# Altium integrated library Actel Fusion FPGA.IntLib: 438 symbols (part 2 of 3)
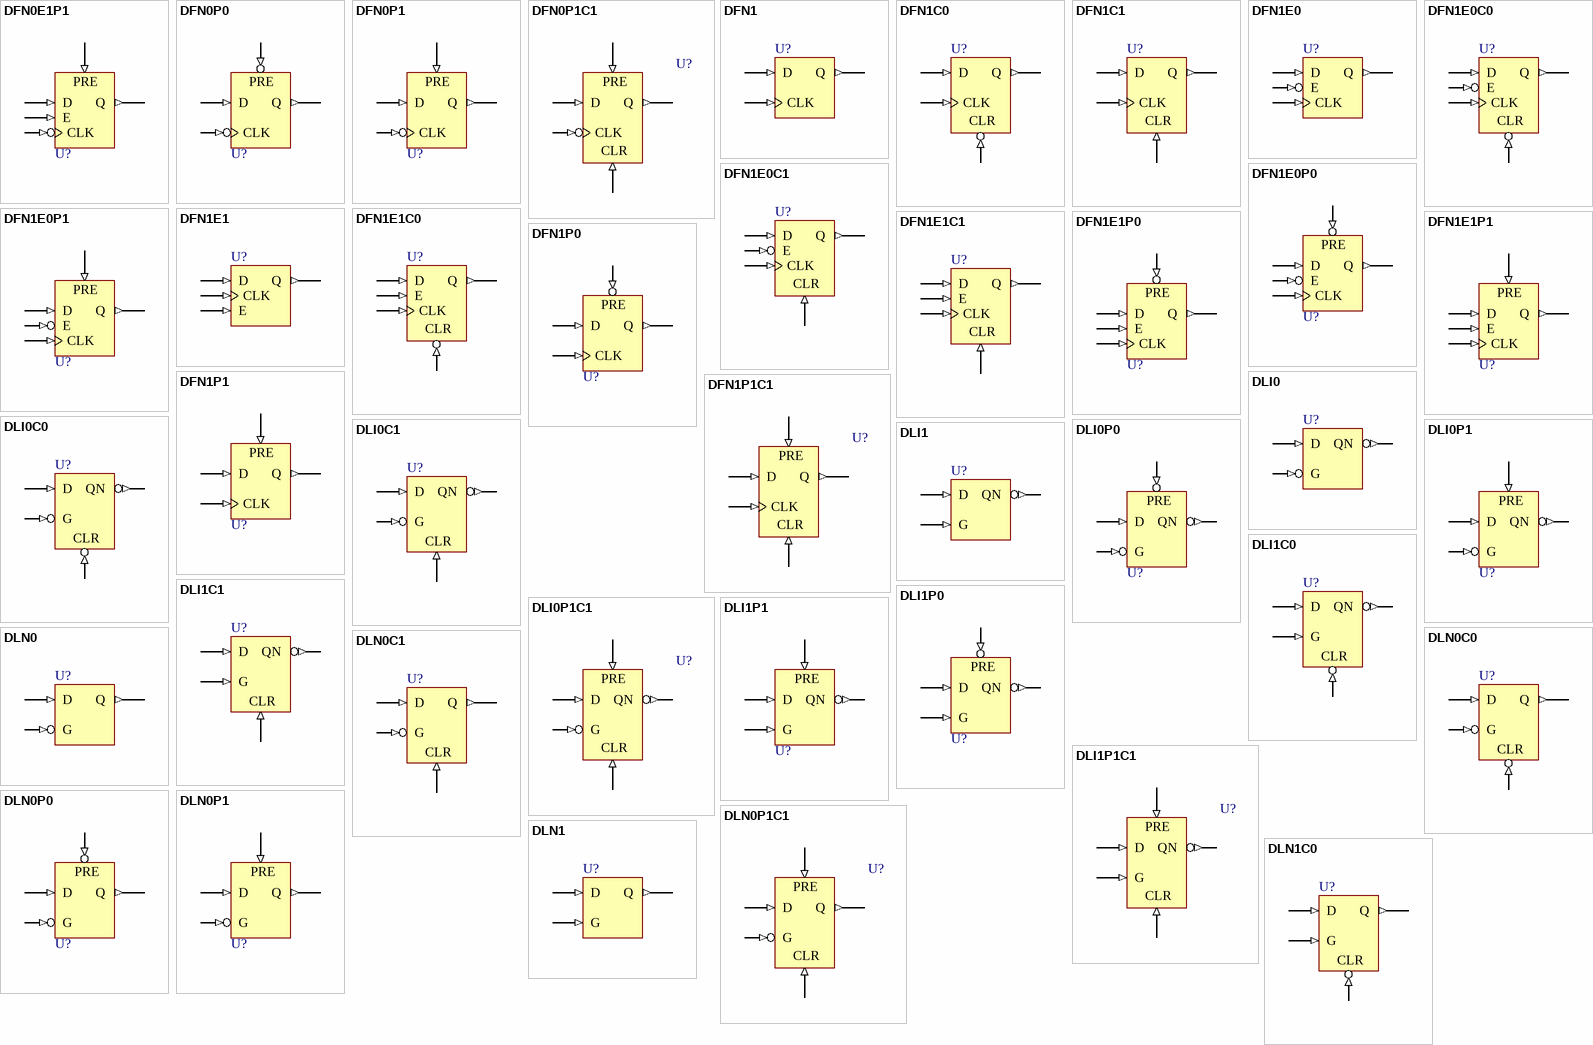
[diagram p12: symbols DFN0E1P1 to DLN1C0]

## DFN0P1
designator U?
D-Type Flip-Flop with active high Preset, and active low Clock; FPGAVendor: Actel; Published: 25-Oct-2005; Publisher: Altium Limited; HelpURL: http://www.actel.com/documents/pa3_libguide_ug.pdf
pins: CLK (in), D (in), PRE (in), Q (out)

## DFN0P1C1
designator U?
Falling Edge Triggered D-Type Flip-Flop with Active High Preset and Clear; FPGAVendor: Actel; Published: 25-Oct-2005; Publisher: Altium Limited; HelpURL: http://www.actel.com/documents/pa3_libguide_ug.pdf
pins: CLK (in), CLR (in), D (in), PRE (in), Q (out)

## DFN1
designator U?
D-Type Flip-Flop; FPGAVendor: Actel; Published: 25-Oct-2005; Publisher: Altium Limited; HelpURL: http://www.actel.com/documents/pa3_libguide_ug.pdf
pins: CLK (in), D (in), Q (out)

## DFN1C0
designator U?
D-Type Flip-Flop with active low Clear; FPGAVendor: Actel; Published: 25-Oct-2005; Publisher: Altium Limited; HelpURL: http://www.actel.com/documents/pa3_libguide_ug.pdf
pins: CLK (in), CLR (in), D (in), Q (out)

## DFN1C1
designator U?
D-Type Flip-Flop with active high Clear; FPGAVendor: Actel; Published: 25-Oct-2005; Publisher: Altium Limited; HelpURL: http://www.actel.com/documents/pa3_libguide_ug.pdf
pins: CLK (in), CLR (in), D (in), Q (out)

## DFN1E0
designator U?
D-Type Flip-Flop with active low Enable; FPGAVendor: Actel; Published: 25-Oct-2005; Publisher: Altium Limited; HelpURL: http://www.actel.com/documents/pa3_libguide_ug.pdf
pins: CLK (in), D (in), E (in), Q (out)

## DFN1E0C0
designator U?
D-Type Flip-Flop with Active Low Enable and Clear; FPGAVendor: Actel; Published: 25-Oct-2005; Publisher: Altium Limited; HelpURL: http://www.actel.com/documents/pa3_libguide_ug.pdf
pins: CLK (in), CLR (in), D (in), E (in), Q (out)

## DFN1E0C1
designator U?
D-Type Flip-Flop with Active Low Enable and active high Clear; FPGAVendor: Actel; Published: 25-Oct-2005; Publisher: Altium Limited; HelpURL: http://www.actel.com/documents/pa3_libguide_ug.pdf
pins: CLK (in), CLR (in), D (in), E (in), Q (out)

## DFN1E0P0
designator U?
D-Type Flip-Flop with active low Enable and Preset; FPGAVendor: Actel; Published: 25-Oct-2005; Publisher: Altium Limited; HelpURL: http://www.actel.com/documents/pa3_libguide_ug.pdf
pins: CLK (in), D (in), E (in), PRE (in), Q (out)

## DFN1E0P1
designator U?
D-Type Flip-Flop with active low Enable, and active high Preset; FPGAVendor: Actel; Published: 25-Oct-2005; Publisher: Altium Limited; HelpURL: http://www.actel.com/documents/pa3_libguide_ug.pdf
pins: CLK (in), D (in), E (in), PRE (in), Q (out)

## DFN1E1
designator U?
D-Type Flip-Flop with active high Enable; FPGAVendor: Actel; Published: 25-Oct-2005; Publisher: Altium Limited; HelpURL: http://www.actel.com/documents/pa3_libguide_ug.pdf
pins: CLK (in), D (in), E (in), Q (out)

## DFN1E1C0
designator U?
D-Type Flip-Flop, with Enable and active low Clear; FPGAVendor: Actel; Published: 25-Oct-2005; Publisher: Altium Limited; HelpURL: http://www.actel.com/documents/pa3_libguide_ug.pdf
pins: CLK (in), CLR (in), D (in), E (in), Q (out)

## DFN1E1C1
designator U?
D-Type Flip-Flop, with Enable and active high Clear; FPGAVendor: Actel; Published: 25-Oct-2005; Publisher: Altium Limited; HelpURL: http://www.actel.com/documents/pa3_libguide_ug.pdf
pins: CLK (in), CLR (in), D (in), E (in), Q (out)

## DFN1E1P0
designator U?
D-Type Flip-Flop with active high Enable and active low Preset; FPGAVendor: Actel; Published: 25-Oct-2005; Publisher: Altium Limited; HelpURL: http://www.actel.com/documents/pa3_libguide_ug.pdf
pins: CLK (in), D (in), E (in), PRE (in), Q (out)

## DFN1E1P1
designator U?
D-Type Flip-Flop with active high Enable and Preset; FPGAVendor: Actel; Published: 25-Oct-2005; Publisher: Altium Limited; HelpURL: http://www.actel.com/documents/pa3_libguide_ug.pdf
pins: CLK (in), D (in), E (in), PRE (in), Q (out)

## DFN1P0
designator U?
D-Type Flip-Flop with active low Preset; FPGAVendor: Actel; Published: 25-Oct-2005; Publisher: Altium Limited; HelpURL: http://www.actel.com/documents/pa3_libguide_ug.pdf
pins: CLK (in), D (in), PRE (in), Q (out)

## DFN1P1
designator U?
D-Type Flip-Flop with active high Preset; FPGAVendor: Actel; Published: 25-Oct-2005; Publisher: Altium Limited; HelpURL: http://www.actel.com/documents/pa3_libguide_ug.pdf
pins: CLK (in), D (in), PRE (in), Q (out)

## DFN1P1C1
designator U?
Rising Edge Triggered D-Type Flip-Flop with Active High Preset and Clear; FPGAVendor: Actel; Published: 25-Oct-2005; Publisher: Altium Limited; HelpURL: http://www.actel.com/documents/pa3_libguide_ug.pdf
pins: CLK (in), CLR (in), D (in), PRE (in), Q (out)

## DLI0
designator U?
Data Latch, with active low Clock and inverted Output; FPGAVendor: Actel; Published: 25-Oct-2005; Publisher: Altium Limited; HelpURL: http://www.actel.com/documents/pa3_libguide_ug.pdf
pins: D (in), G (in), QN (out)

## DLI0C0
designator U?
Data Latch with active low Clear, Clock, and inverted Output; FPGAVendor: Actel; Published: 25-Oct-2005; Publisher: Altium Limited; HelpURL: http://www.actel.com/documents/pa3_libguide_ug.pdf
pins: CLR (in), D (in), G (in), QN (out)

## DLI0C1
designator U?
Data Latch with active high Clear and active low Clock and inverted Output; FPGAVendor: Actel; Published: 25-Oct-2005; Publisher: Altium Limited; HelpURL: http://www.actel.com/documents/pa3_libguide_ug.pdf
pins: CLR (in), D (in), G (in), QN (out)

## DLI0P0
designator U?
Data Latch with active low Preset, Clock, and inverted Output; FPGAVendor: Actel; Published: 25-Oct-2005; Publisher: Altium Limited; HelpURL: http://www.actel.com/documents/pa3_libguide_ug.pdf
pins: D (in), G (in), PRE (in), QN (out)

## DLI0P1
designator U?
Active Low Latch with Active High Preset and inverted Output; FPGAVendor: Actel; Published: 25-Oct-2005; Publisher: Altium Limited; HelpURL: http://www.actel.com/documents/pa3_libguide_ug.pdf
pins: D (in), G (in), PRE (in), QN (out)

## DLI0P1C1
designator U?
Active Low Latch with Active High Preset and Clear and inverted Output; FPGAVendor: Actel; Published: 25-Oct-2005; Publisher: Altium Limited; HelpURL: http://www.actel.com/documents/pa3_libguide_ug.pdf
pins: CLR (in), D (in), G (in), PRE (in), QN (out)

## DLI1
designator U?
Data Latch with inverted Output; FPGAVendor: Actel; Published: 25-Oct-2005; Publisher: Altium Limited; HelpURL: http://www.actel.com/documents/pa3_libguide_ug.pdf
pins: D (in), G (in), QN (out)

## DLI1C0
designator U?
Data Latch with active low Clear and inverted output; FPGAVendor: Actel; Published: 25-Oct-2005; Publisher: Altium Limited; HelpURL: http://www.actel.com/documents/pa3_libguide_ug.pdf
pins: CLR (in), D (in), G (in), QN (out)

## DLI1C1
designator U?
Data Latch with active high Clear and inverted Output; FPGAVendor: Actel; Published: 25-Oct-2005; Publisher: Altium Limited; HelpURL: http://www.actel.com/documents/pa3_libguide_ug.pdf
pins: CLR (in), D (in), G (in), QN (out)

## DLI1P0
designator U?
Data Latch with active low Preset and Output, and active high Clock; FPGAVendor: Actel; Published: 25-Oct-2005; Publisher: Altium Limited; HelpURL: http://www.actel.com/documents/pa3_libguide_ug.pdf
pins: D (in), G (in), PRE (in), QN (out)

## DLI1P1
designator U?
Active High Latch with Active High Preset and inverted Output; FPGAVendor: Actel; Published: 25-Oct-2005; Publisher: Altium Limited; HelpURL: http://www.actel.com/documents/pa3_libguide_ug.pdf
pins: D (in), G (in), PRE (in), QN (out)

## DLI1P1C1
designator U?
Active High Latch with Active High Preset and Clear and inverted Output; FPGAVendor: Actel; Published: 25-Oct-2005; Publisher: Altium Limited; HelpURL: http://www.actel.com/documents/pa3_libguide_ug.pdf
pins: CLR (in), D (in), G (in), PRE (in), QN (out)

## DLN0
designator U?
Data Latch with active low Clock; FPGAVendor: Actel; Published: 25-Oct-2005; Publisher: Altium Limited; HelpURL: http://www.actel.com/documents/pa3_libguide_ug.pdf
pins: D (in), G (in), Q (out)

## DLN0C0
designator U?
Data Latch with active low Clear and Clock; FPGAVendor: Actel; Published: 25-Oct-2005; Publisher: Altium Limited; HelpURL: http://www.actel.com/documents/pa3_libguide_ug.pdf
pins: CLR (in), D (in), G (in), Q (out)

## DLN0C1
designator U?
Data Latch with active high Clear and active low Clock; FPGAVendor: Actel; Published: 25-Oct-2005; Publisher: Altium Limited; HelpURL: http://www.actel.com/documents/pa3_libguide_ug.pdf
pins: CLR (in), D (in), G (in), Q (out)

## DLN0P0
designator U?
Data Latch with active low Preset and Clock; FPGAVendor: Actel; Published: 25-Oct-2005; Publisher: Altium Limited; HelpURL: http://www.actel.com/documents/pa3_libguide_ug.pdf
pins: D (in), G (in), PRE (in), Q (out)

## DLN0P1
designator U?
Data Latch with active high Preset and active low Clock; FPGAVendor: Actel; Published: 25-Oct-2005; Publisher: Altium Limited; HelpURL: http://www.actel.com/documents/pa3_libguide_ug.pdf
pins: D (in), G (in), PRE (in), Q (out)

## DLN0P1C1
designator U?
Active Low Latch with Active High Preset and Clear; FPGAVendor: Actel; Published: 25-Oct-2005; Publisher: Altium Limited; HelpURL: http://www.actel.com/documents/pa3_libguide_ug.pdf
pins: CLR (in), D (in), G (in), PRE (in), Q (out)

## DLN1
designator U?
Data Latch; FPGAVendor: Actel; Published: 25-Oct-2005; Publisher: Altium Limited; HelpURL: http://www.actel.com/documents/pa3_libguide_ug.pdf
pins: D (in), G (in), Q (out)

## DLN1C0
designator U?
Data Latch with active low Clear; FPGAVendor: Actel; Published: 25-Oct-2005; Publisher: Altium Limited; HelpURL: http://www.actel.com/documents/pa3_libguide_ug.pdf
pins: CLR (in), D (in), G (in), Q (out)

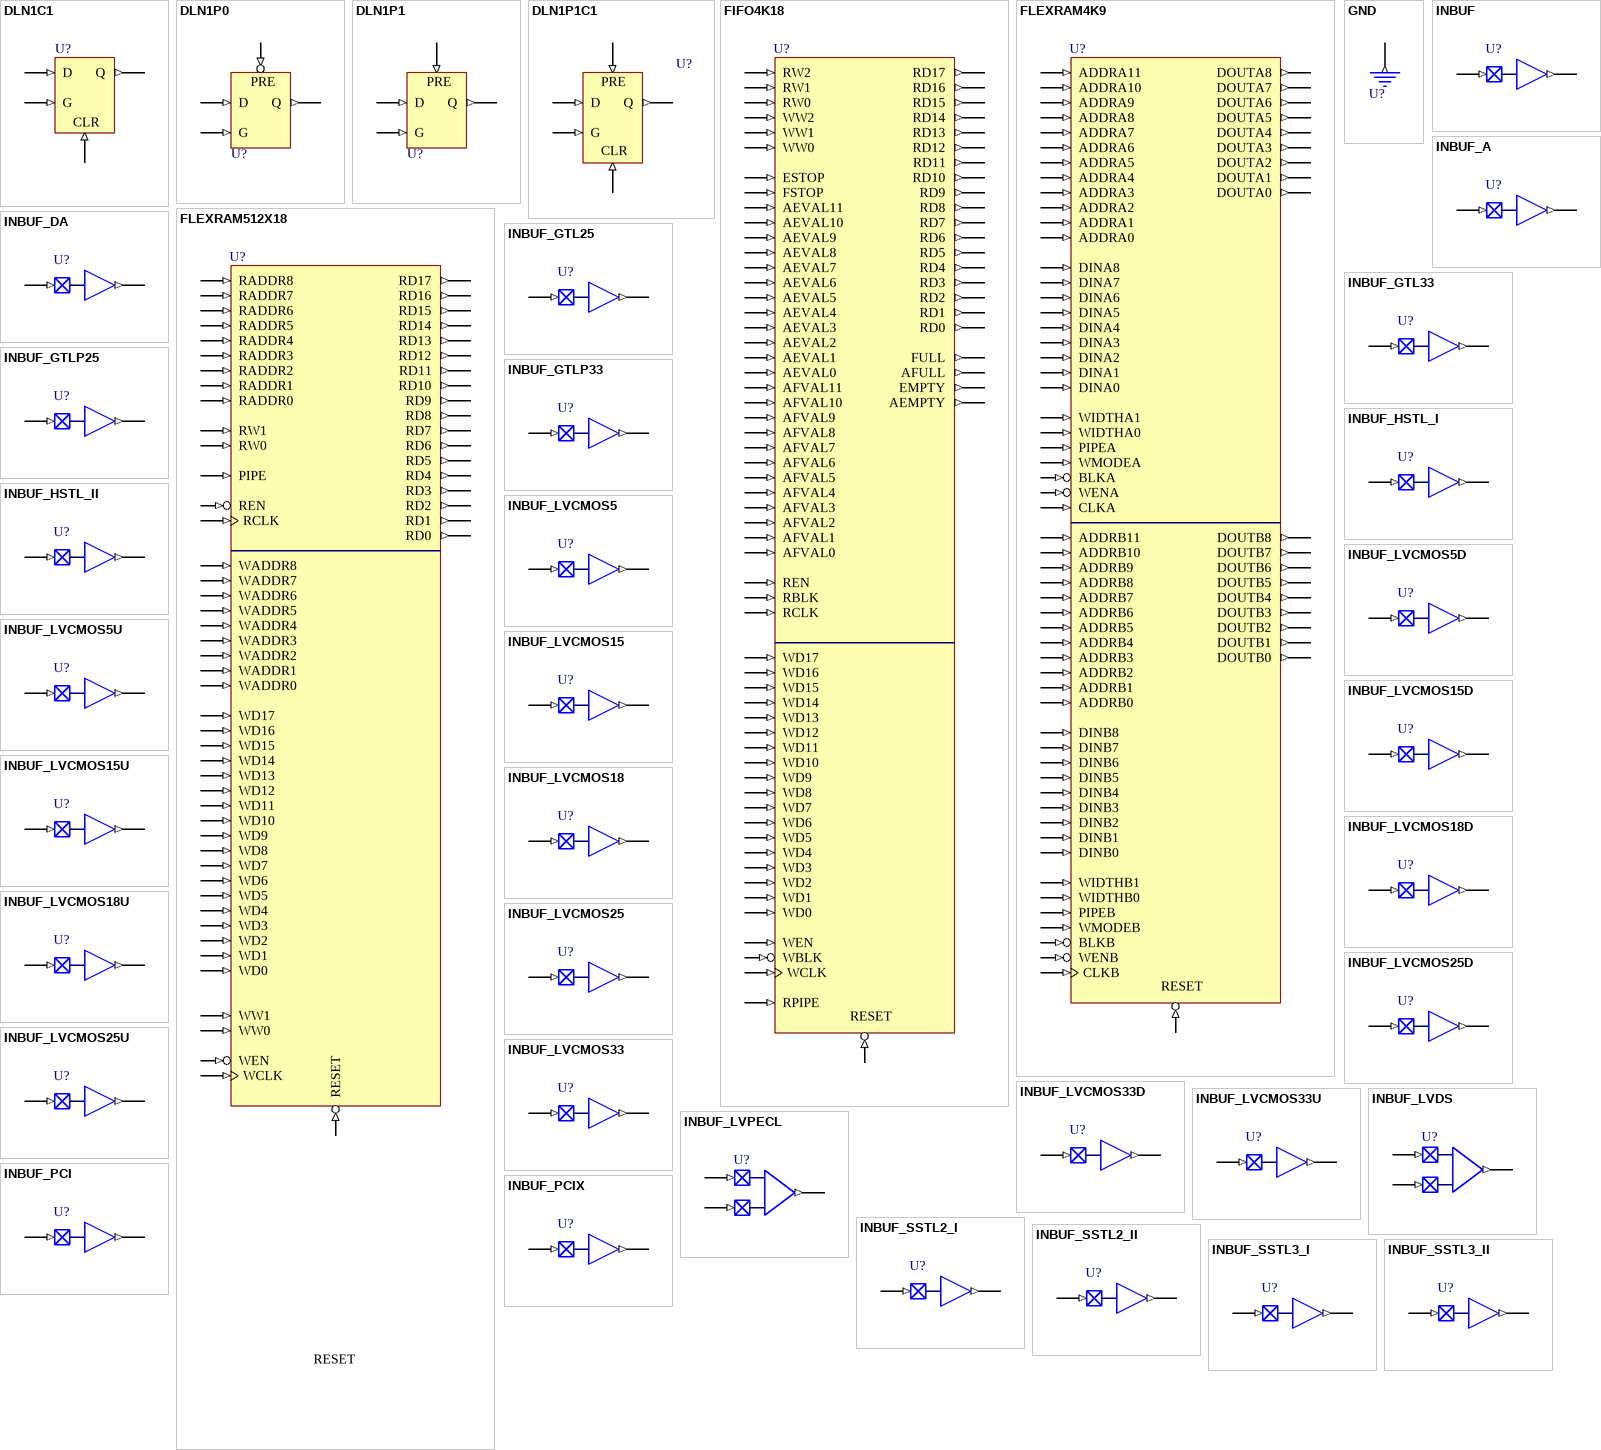
[diagram p6: symbols DLN1C1 to INBUF_SSTL3_II]

## DLN1C1
designator U?
Data Latch with active high Clear; FPGAVendor: Actel; Published: 25-Oct-2005; Publisher: Altium Limited; HelpURL: http://www.actel.com/documents/pa3_libguide_ug.pdf
pins: CLR (in), D (in), G (in), Q (out)

## DLN1P0
designator U?
Data Latch with active low Preset and active high Clock; FPGAVendor: Actel; Published: 25-Oct-2005; Publisher: Altium Limited; HelpURL: http://www.actel.com/documents/pa3_libguide_ug.pdf
pins: D (in), G (in), PRE (in), Q (out)

## DLN1P1
designator U?
Data Latch with active high Preset and Clock; FPGAVendor: Actel; Published: 25-Oct-2005; Publisher: Altium Limited; HelpURL: http://www.actel.com/documents/pa3_libguide_ug.pdf
pins: D (in), G (in), PRE (in), Q (out)

## DLN1P1C1
designator U?
Active High Latch with Active High Preset and Clear; FPGAVendor: Actel; Published: 25-Oct-2005; Publisher: Altium Limited; HelpURL: http://www.actel.com/documents/pa3_libguide_ug.pdf
pins: CLR (in), D (in), G (in), PRE (in), Q (out)

## FIFO4K18
designator U?
FIFO4K18 is fully synchronous and has its own built-in controller,capable of variable aspect ratios; FPGAVendor: Actel; Published: 25-Oct-2005; Publisher: Altium Limited; HelpURL: http://www.actel.com/documents/pa3_libguide_ug.pdf
pins: AEMPTY (out), AEVAL0 (in), AEVAL1 (in), AEVAL2 (in), AEVAL3 (in), AEVAL4 (in), AEVAL5 (in), AEVAL6 (in), AEVAL7 (in), AEVAL8 (in), AEVAL9 (in), AEVAL10 (in), AEVAL11 (in), AFULL (out), AFVAL0 (in), AFVAL1 (in), AFVAL2 (in), AFVAL3 (in), AFVAL4 (in), AFVAL5 (in), AFVAL6 (in), AFVAL7 (in), AFVAL8 (in), AFVAL9 (in), AFVAL10 (in), AFVAL11 (in), EMPTY (out), ESTOP (in), FSTOP (in), FULL (out), RBLK (in), RCLK (in), RD0 (out), RD1 (out), RD2 (out), RD3 (out), RD4 (out), RD5 (out), RD6 (out), RD7 (out), RD8 (out), RD9 (out), RD10 (out), RD11 (out), RD12 (out), RD13 (out), RD14 (out), RD15 (out), RD16 (out), RD17 (out), REN (in), RESET (in), RPIPE (in), RW0 (in), RW1 (in), RW2 (in), WBLK (in), WCLK (in), WD0 (in), WD1 (in), WD2 (in), WD3 (in), WD4 (in), WD5 (in), WD6 (in), WD7 (in), WD8 (in), WD9 (in), WD10 (in), WD11 (in), WD12 (in), WD13 (in), WD14 (in), WD15 (in), WD16 (in), WD17 (in), WEN (in), WW0 (in), WW1 (in), WW2 (in)

## FLEXRAM4K9
designator U?
FLEXRAM4K9 is a fully synchronous, true dual-port RAM with an optional pipeline stage; FPGAVendor: Actel; Published: 7-Sep-2006; Publisher: Altium Limited; HelpURL: http://www.actel.com/documents/pa3_libguide_ug.pdf
pins: ADDRA0 (in), ADDRA1 (in), ADDRA2 (in), ADDRA3 (in), ADDRA4 (in), ADDRA5 (in), ADDRA6 (in), ADDRA7 (in), ADDRA8 (in), ADDRA9 (in), ADDRA10 (in), ADDRA11 (in), ADDRB0 (in), ADDRB1 (in), ADDRB2 (in), ADDRB3 (in), ADDRB4 (in), ADDRB5 (in), ADDRB6 (in), ADDRB7 (in), ADDRB8 (in), ADDRB9 (in), ADDRB10 (in), ADDRB11 (in), BLKA (in), BLKB (in), CLKA (in), CLKB (in), DINA0 (in), DINA1 (in), DINA2 (in), DINA3 (in), DINA4 (in), DINA5 (in), DINA6 (in), DINA7 (in), DINA8 (in), DINB0 (in), DINB1 (in), DINB2 (in), DINB3 (in), DINB4 (in), DINB5 (in), DINB6 (in), DINB7 (in), DINB8 (in), DOUTA0 (out), DOUTA1 (out), DOUTA2 (out), DOUTA3 (out), DOUTA4 (out), DOUTA5 (out), DOUTA6 (out), DOUTA7 (out), DOUTA8 (out), DOUTB0 (out), DOUTB1 (out), DOUTB2 (out), DOUTB3 (out), DOUTB4 (out), DOUTB5 (out), DOUTB6 (out), DOUTB7 (out), DOUTB8 (out), PIPEA (in), PIPEB (in), RESET (in), WENA (in), WENB (in), WIDTHA0 (in), WIDTHA1 (in), WIDTHB0 (in), WIDTHB1 (in), WMODEA (in), WMODEB (in)

## FLEXRAM512X18
designator U?
FLEXRAM512X18 is a fully synchronous, two-port RAM with an optional pipeline stage; FPGAVendor: Actel; Published: 7-Sep-2006; Publisher: Altium Limited; HelpURL: http://www.actel.com/documents/pa3_libguide_ug.pdf
pins: PIPE (in), RADDR0 (in), RADDR1 (in), RADDR2 (in), RADDR3 (in), RADDR4 (in), RADDR5 (in), RADDR6 (in), RADDR7 (in), RADDR8 (in), RCLK (in), RD0 (out), RD1 (out), RD2 (out), RD3 (out), RD4 (out), RD5 (out), RD6 (out), RD7 (out), RD8 (out), RD9 (out), RD10 (out), RD11 (out), RD12 (out), RD13 (out), RD14 (out), RD15 (out), RD16 (out), RD17 (out), REN (in), RESET (in), RW0 (in), RW1 (in), WADDR0 (in), WADDR1 (in), WADDR2 (in), WADDR3 (in), WADDR4 (in), WADDR5 (in), WADDR6 (in), WADDR7 (in), WADDR8 (in), WCLK (in), WD0 (in), WD1 (in), WD2 (in), WD3 (in), WD4 (in), WD5 (in), WD6 (in), WD7 (in), WD8 (in), WD9 (in), WD10 (in), WD11 (in), WD12 (in), WD13 (in), WD14 (in), WD15 (in), WD16 (in), WD17 (in), WEN (in), WW0 (in), WW1 (in)

## GND
designator U?
Ground; FPGAVendor: Actel; Published: 25-Oct-2005; Publisher: Altium Limited; HelpURL: http://www.actel.com/documents/pa3_libguide_ug.pdf
pins: Y (out)

## INBUF
designator U?
Input Buffer; FPGAVendor: Actel; Published: 25-Oct-2005; Publisher: Altium Limited; HelpURL: http://www.actel.com/documents/pa3_libguide_ug.pdf
pins: PAD (in), Y (out)

## INBUF_A
designator U?
Analog input buffer; you must connect the GNDREF and ATRTN01 - ATRTN89 pads (in the Analog System System Builder) to this buffer. You cannot use a generic INBUF in place of INBUF_A. / Builder) to this buffer. You cannot use a generic INBUF in place of INBUF_A. / Builder) to this buffer. You cannot use a generic INBUF in place of INBUF_A.; FPGAVendor: Actel; Published: 25-Oct-2005; Publisher: Altium Limited; HelpURL: http://www.actel.com/documents/pa3_libguide_ug.pdf
pins: PAD (in), Y (out)

## INBUF_DA
designator U?
Digital or analog input buffer; you must connect the voltage, current, and temperature monitoring pads (from the Analog System Builder) to this macro. You cannot use a generic INBUF in place of INBUF_DA.; FPGAVendor: Actel; Published: 25-Oct-2005; Publisher: Altium Limited; HelpURL: http://www.actel.com/documents/pa3_libguide_ug.pdf
pins: PAD (in), Y (out)

## INBUF_GTL25
designator U?
GTL input buffer; FPGAVendor: Actel; Published: 25-Oct-2005; Publisher: Altium Limited; HelpURL: http://www.actel.com/documents/pa3_libguide.pdf
pins: PAD (in), Y (out)

## INBUF_GTL33
designator U?
GTL input buffer; FPGAVendor: Actel; Published: 25-Oct-2005; Publisher: Altium Limited; HelpURL: http://www.actel.com/documents/pa3_libguide.pdf
pins: PAD (in), Y (out)

## INBUF_GTLP25
designator U?
GTLP input buffer with 2.5 CMOS voltage level; FPGAVendor: Actel; Published: 25-Oct-2005; Publisher: Altium Limited; HelpURL: http://www.actel.com/documents/pa3_libguide.pdf
pins: PAD (in), Y (out)

## INBUF_GTLP33
designator U?
GTLP input buffer with 3.3 CMOS voltage level; FPGAVendor: Actel; Published: 25-Oct-2005; Publisher: Altium Limited; HelpURL: http://www.actel.com/documents/pa3_libguide.pdf
pins: PAD (in), Y (out)

## INBUF_HSTL_I
designator U?
HSTL class I input buffer; FPGAVendor: Actel; Published: 25-Oct-2005; Publisher: Altium Limited; HelpURL: http://www.actel.com/documents/pa3_libguide.pdf
pins: PAD (in), Y (out)

## INBUF_HSTL_II
designator U?
HSTL class II input buffer; FPGAVendor: Actel; Published: 25-Oct-2005; Publisher: Altium Limited; HelpURL: http://www.actel.com/documents/pa3_libguide.pdf
pins: PAD (in), Y (out)

## INBUF_LVCMOS5
designator U?
LVCMOS5 Input Buffer with 5.0 CMOS voltage level; FPGAVendor: Actel; Published: 25-Oct-2005; Publisher: Altium Limited; HelpURL: http://www.actel.com/documents/pa3_libguide_ug.pdf
pins: PAD (in), Y (out)

## INBUF_LVCMOS5D
designator U?
LVCMOS5 Input Buffer with 5.0 CMOS voltage level, pull-down resistor; FPGAVendor: Actel; Published: 25-Oct-2005; Publisher: Altium Limited; HelpURL: http://www.actel.com/documents/pa3_libguide_ug.pdf
pins: PAD (in), Y (out)

## INBUF_LVCMOS5U
designator U?
LVCMOS5 Input Buffer with 5.0 CMOS voltage level, pull-up resistor; FPGAVendor: Actel; Published: 25-Oct-2005; Publisher: Altium Limited; HelpURL: http://www.actel.com/documents/pa3_libguide_ug.pdf
pins: PAD (in), Y (out)

## INBUF_LVCMOS15
designator U?
LVCMOS Input buffer with 1.5 CMOS voltage level; FPGAVendor: Actel; Published: 25-Oct-2005; Publisher: Altium Limited; HelpURL: http://www.actel.com/documents/pa3_libguide_ug.pdf
pins: PAD (in), Y (out)

## INBUF_LVCMOS15D
designator U?
LVCMOS Input buffer with 1.5 CMOS voltage level, pull-down resistor; FPGAVendor: Actel; Published: 25-Oct-2005; Publisher: Altium Limited; HelpURL: http://www.actel.com/documents/pa3_libguide_ug.pdf
pins: PAD (in), Y (out)

## INBUF_LVCMOS15U
designator U?
LVCMOS Input buffer with 1.5 CMOS voltage level, pull-up resistor; FPGAVendor: Actel; Published: 25-Oct-2005; Publisher: Altium Limited; HelpURL: http://www.actel.com/documents/pa3_libguide_ug.pdf
pins: PAD (in), Y (out)

## INBUF_LVCMOS18
designator U?
LVCMOS Input buffer with 1.8 CMOS voltage level; FPGAVendor: Actel; Published: 25-Oct-2005; Publisher: Altium Limited; HelpURL: http://www.actel.com/documents/pa3_libguide_ug.pdf
pins: PAD (in), Y (out)

## INBUF_LVCMOS18D
designator U?
LVCMOS Input buffer with 1.8 CMOS voltage level, pull-down resistor; FPGAVendor: Actel; Published: 25-Oct-2005; Publisher: Altium Limited; HelpURL: http://www.actel.com/documents/pa3_libguide_ug.pdf
pins: PAD (in), Y (out)

## INBUF_LVCMOS18U
designator U?
LVCMOS Input buffer with 1.8 CMOS voltage level, pull-up resistor; FPGAVendor: Actel; Published: 25-Oct-2005; Publisher: Altium Limited; HelpURL: http://www.actel.com/documents/pa3_libguide_ug.pdf
pins: PAD (in), Y (out)

## INBUF_LVCMOS25
designator U?
LVCMOS Input buffer with 2.5 CMOS voltage level; FPGAVendor: Actel; Published: 25-Oct-2005; Publisher: Altium Limited; HelpURL: http://www.actel.com/documents/pa3_libguide_ug.pdf
pins: PAD (in), Y (out)

## INBUF_LVCMOS25D
designator U?
LVCMOS Input buffer with 2.5 CMOS voltage level, pull-down resistor; FPGAVendor: Actel; Published: 25-Oct-2005; Publisher: Altium Limited; HelpURL: http://www.actel.com/documents/pa3_libguide_ug.pdf
pins: PAD (in), Y (out)

## INBUF_LVCMOS25U
designator U?
LVCMOS Input buffer with 2.5 CMOS voltage level, pull-up resistor; FPGAVendor: Actel; Published: 25-Oct-2005; Publisher: Altium Limited; HelpURL: http://www.actel.com/documents/pa3_libguide_ug.pdf
pins: PAD (in), Y (out)

## INBUF_LVCMOS33
designator U?
LVCMOS Input buffer with 3.3 CMOS voltage level; FPGAVendor: Actel; Published: 25-Oct-2005; Publisher: Altium Limited; HelpURL: http://www.actel.com/documents/pa3_libguide_ug.pdf
pins: PAD (in), Y (out)

## INBUF_LVCMOS33D
designator U?
LVCMOS Input buffer with 3.3 CMOS voltage level, pull-down resistor; FPGAVendor: Actel; Published: 25-Oct-2005; Publisher: Altium Limited; HelpURL: http://www.actel.com/documents/pa3_libguide_ug.pdf
pins: PAD (in), Y (out)

## INBUF_LVCMOS33U
designator U?
LVCMOS Input buffer with 3.3 CMOS voltage level, pull-up resistor; FPGAVendor: Actel; Published: 25-Oct-2005; Publisher: Altium Limited; HelpURL: http://www.actel.com/documents/pa3_libguide_ug.pdf
pins: PAD (in), Y (out)

## INBUF_LVDS
designator U?
LVDS Input Buffer; FPGAVendor: Actel; Published: 25-Oct-2005; Publisher: Altium Limited; HelpURL: http://www.actel.com/documents/pa3_libguide_ug.pdf
pins: PADN (in), PADP (in), Y (out)

## INBUF_LVPECL
designator U?
LVPECL Input Buffer; FPGAVendor: Actel; Published: 25-Oct-2005; Publisher: Altium Limited; HelpURL: http://www.actel.com/documents/pa3_libguide_ug.pdf
pins: PADN (in), PADP (in), Y (out)

## INBUF_PCI
designator U?
PCI Input Buffer; FPGAVendor: Actel; Published: 25-Oct-2005; Publisher: Altium Limited; HelpURL: http://www.actel.com/documents/pa3_libguide_ug.pdf
pins: PAD (in), Y (out)

## INBUF_PCIX
designator U?
PCIX Input Buffer; FPGAVendor: Actel; Published: 25-Oct-2005; Publisher: Altium Limited; HelpURL: http://www.actel.com/documents/pa3_libguide_ug.pdf
pins: PAD (in), Y (out)

## INBUF_SSTL2_I
designator U?
SSTL2 class I input buffer; FPGAVendor: Actel; Published: 25-Oct-2005; Publisher: Altium Limited; HelpURL: http://www.actel.com/documents/pa3_libguide.pdf
pins: PAD (in), Y (out)

## INBUF_SSTL2_II
designator U?
SSTL2 class II input buffer; FPGAVendor: Actel; Published: 25-Oct-2005; Publisher: Altium Limited; HelpURL: http://www.actel.com/documents/pa3_libguide.pdf
pins: PAD (in), Y (out)

## INBUF_SSTL3_I
designator U?
SSTL3 class I input buffer; FPGAVendor: Actel; Published: 25-Oct-2005; Publisher: Altium Limited; HelpURL: http://www.actel.com/documents/pa3_libguide.pdf
pins: PAD (in), Y (out)

## INBUF_SSTL3_II
designator U?
SSTL3 class II input buffer; FPGAVendor: Actel; Published: 25-Oct-2005; Publisher: Altium Limited; HelpURL: http://www.actel.com/documents/pa3_libguide.pdf
pins: PAD (in), Y (out)

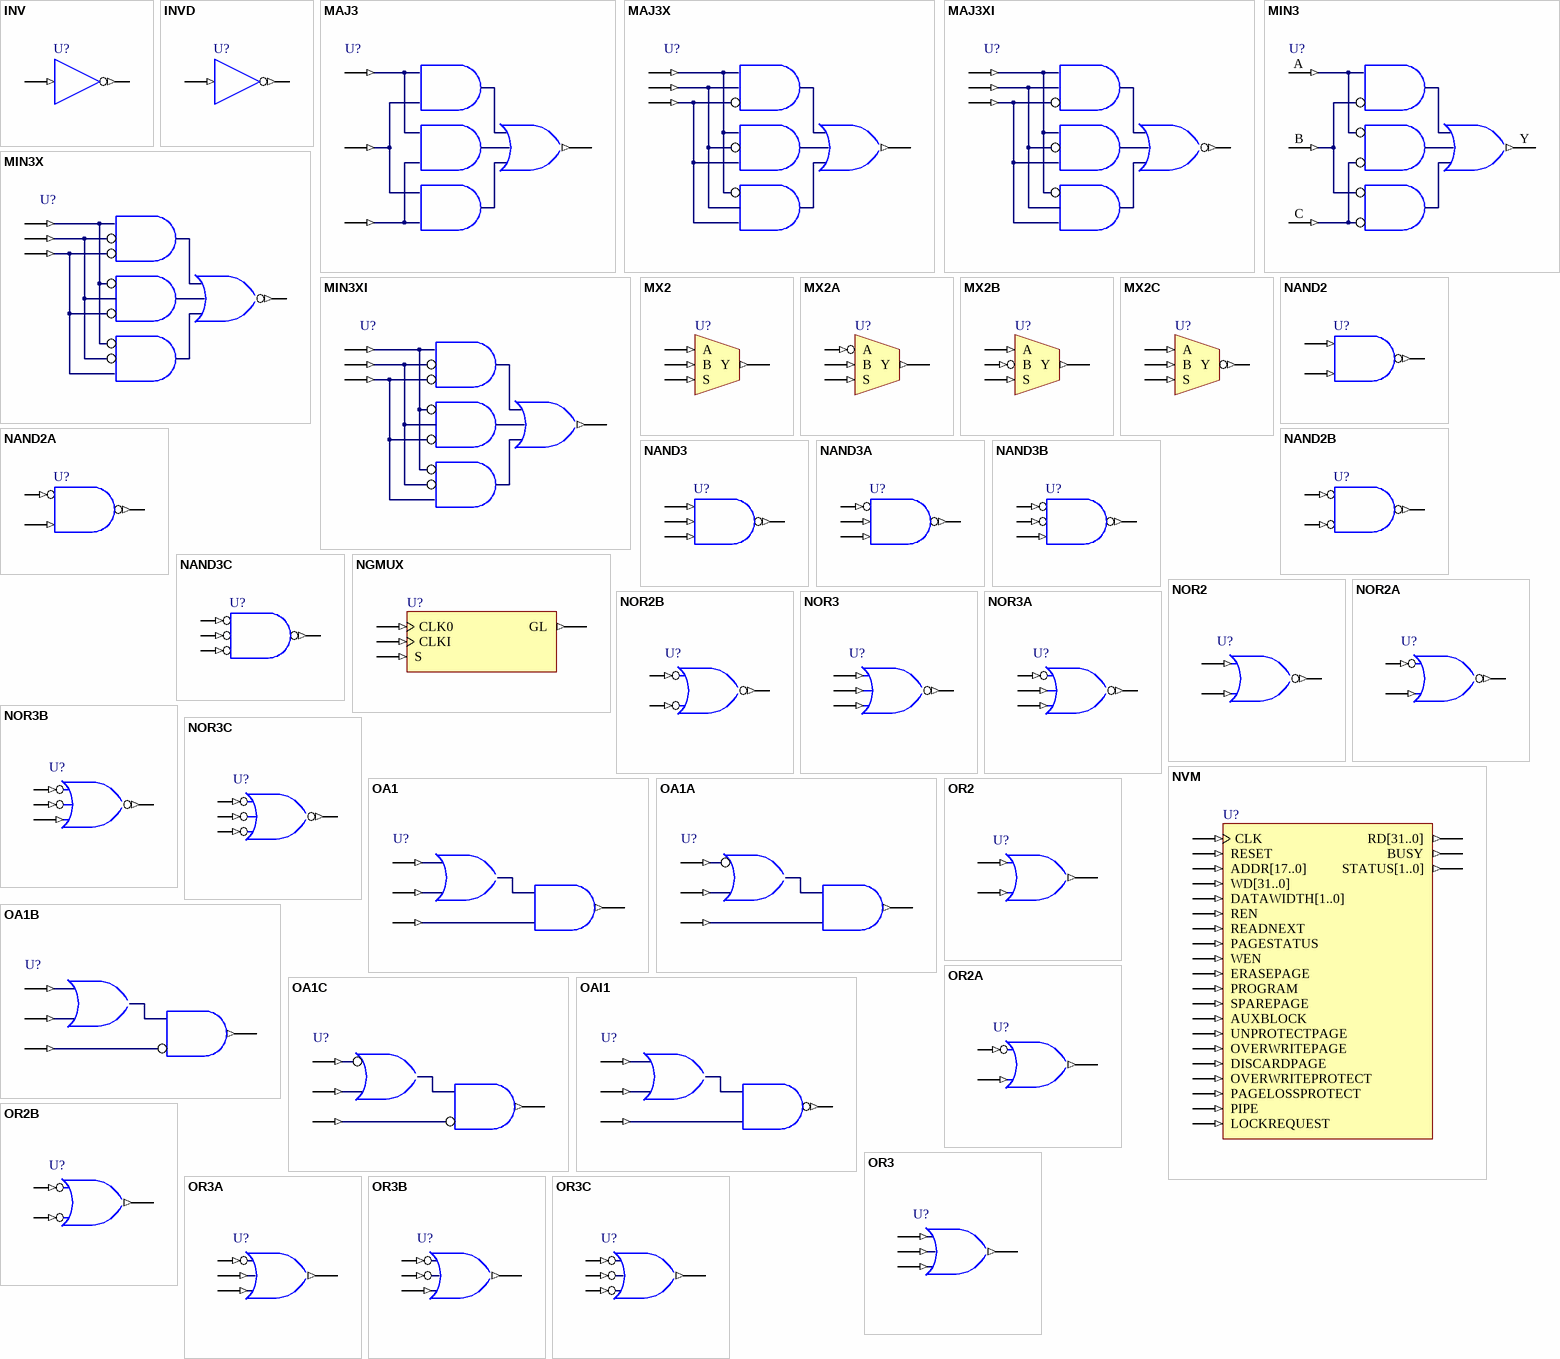
[diagram p7: symbols INV to OR3C]

## INV
designator U?
Inverter with active low Output; FPGAVendor: Actel; Published: 25-Oct-2005; Publisher: Altium Limited; HelpURL: http://www.actel.com/documents/pa3_libguide_ug.pdf
pins: A (in), Y (out)

## INVD
designator U?
Inverter with active low Output; FPGAVendor: Actel; Published: 25-Oct-2005; Publisher: Altium Limited; HelpURL: http://www.actel.com/documents/pa3_libguide_ug.pdf
pins: A (in), Y (out)

## MAJ3
designator U?
3-Input majority function; FPGAVendor: Actel; Published: 25-Oct-2005; Publisher: Altium Limited; HelpURL: http://www.actel.com/documents/pa3_libguide_ug.pdf
pins: A (in), B (in), C (in), Y (out)

## MAJ3X
designator U?
2 of 3 function; FPGAVendor: Actel; Published: 25-Oct-2005; Publisher: Altium Limited; HelpURL: http://www.actel.com/documents/pa3_libguide_ug.pdf
pins: A (in), B (in), C (in), Y (out)

## MAJ3XI
designator U?
2 of 3 function with active low output; FPGAVendor: Actel; Published: 25-Oct-2005; Publisher: Altium Limited; HelpURL: http://www.actel.com/documents/pa3_libguide_ug.pdf
pins: A (in), B (in), C (in), Y (out)

## MIN3
designator U?
3-Input minority function; FPGAVendor: Actel; Published: 25-Oct-2005; Publisher: Altium Limited; HelpURL: http://www.actel.com/documents/pa3_libguide_ug.pdf
pins: A (in), B (in), C (in), Y (out)

## MIN3X
designator U?
1 of 3 function; FPGAVendor: Actel; Published: 25-Oct-2005; Publisher: Altium Limited; HelpURL: http://www.actel.com/documents/pa3_libguide_ug.pdf
pins: A (in), B (in), C (in), Y (out)

## MIN3XI
designator U?
1 of 3 function with active low output; FPGAVendor: Actel; Published: 25-Oct-2005; Publisher: Altium Limited; HelpURL: http://www.actel.com/documents/pa3_libguide_ug.pdf
pins: A (in), B (in), C (in), Y (out)

## MX2
designator U?
2 to 1 Multiplexer; FPGAVendor: Actel; Published: 25-Oct-2005; Publisher: Altium Limited; HelpURL: http://www.actel.com/documents/pa3_libguide_ug.pdf
pins: A (in), B (in), S (in), Y (out)

## MX2A
designator U?
2 to 1 Multiplexer with active low A-Input; FPGAVendor: Actel; Published: 25-Oct-2005; Publisher: Altium Limited; HelpURL: http://www.actel.com/documents/pa3_libguide_ug.pdf
pins: A (in), B (in), S (in), Y (out)

## MX2B
designator U?
2 to 1 Multiplexer with active low B-Input; FPGAVendor: Actel; Published: 25-Oct-2005; Publisher: Altium Limited; HelpURL: http://www.actel.com/documents/pa3_libguide_ug.pdf
pins: A (in), B (in), S (in), Y (out)

## MX2C
designator U?
2 to 1 Multiplexer with active low Output; FPGAVendor: Actel; Published: 25-Oct-2005; Publisher: Altium Limited; HelpURL: http://www.actel.com/documents/pa3_libguide_ug.pdf
pins: A (in), B (in), S (in), Y (out)

## NAND2
designator U?
2-Input NAND; FPGAVendor: Actel; Published: 25-Oct-2005; Publisher: Altium Limited; HelpURL: http://www.actel.com/documents/pa3_libguide_ug.pdf
pins: A (in), B (in), Y (out)

## NAND2A
designator U?
2-Input NAND with active low A-Input; FPGAVendor: Actel; Published: 25-Oct-2005; Publisher: Altium Limited; HelpURL: http://www.actel.com/documents/pa3_libguide_ug.pdf
pins: A (in), B (in), Y (out)

## NAND2B
designator U?
2-Input NAND with active low Inputs; FPGAVendor: Actel; Published: 25-Oct-2005; Publisher: Altium Limited; HelpURL: http://www.actel.com/documents/pa3_libguide_ug.pdf
pins: A (in), B (in), Y (out)

## NAND3
designator U?
3-Input NAND; FPGAVendor: Actel; Published: 25-Oct-2005; Publisher: Altium Limited; HelpURL: http://www.actel.com/documents/pa3_libguide_ug.pdf
pins: A (in), B (in), C (in), Y (out)

## NAND3A
designator U?
3-Input NAND with active low A-Input; FPGAVendor: Actel; Published: 25-Oct-2005; Publisher: Altium Limited; HelpURL: http://www.actel.com/documents/pa3_libguide_ug.pdf
pins: A (in), B (in), C (in), Y (out)

## NAND3B
designator U?
3-Input NAND with active low A- and B-Inputs; FPGAVendor: Actel; Published: 25-Oct-2005; Publisher: Altium Limited; HelpURL: http://www.actel.com/documents/pa3_libguide_ug.pdf
pins: A (in), B (in), C (in), Y (out)

## NAND3C
designator U?
3-Input NAND with active low Inputs; FPGAVendor: Actel; Published: 25-Oct-2005; Publisher: Altium Limited; HelpURL: http://www.actel.com/documents/pa3_libguide_ug.pdf
pins: A (in), B (in), C (in), Y (out)

## NGMUX
designator U?
No-glitch MUX; FPGAVendor: Actel; Published: 7-Sep-2006; Publisher: Altium Limited; HelpURL: http://www.actel.com/documents/pa3_libguide.pdf
pins: CLK0 (in), CLKI (in), GL (out), S (in)

## NOR2
designator U?
2-Input NOR; FPGAVendor: Actel; Published: 25-Oct-2005; Publisher: Altium Limited; HelpURL: http://www.actel.com/documents/pa3_libguide_ug.pdf
pins: A (in), B (in), Y (out)

## NOR2A
designator U?
2-Input NOR with active low A-Input; FPGAVendor: Actel; Published: 25-Oct-2005; Publisher: Altium Limited; HelpURL: http://www.actel.com/documents/pa3_libguide_ug.pdf
pins: A (in), B (in), Y (out)

## NOR2B
designator U?
2-Input NOR with active low Inputs; FPGAVendor: Actel; Published: 25-Oct-2005; Publisher: Altium Limited; HelpURL: http://www.actel.com/documents/pa3_libguide_ug.pdf
pins: A (in), B (in), Y (out)

## NOR3
designator U?
3-Input NOR; FPGAVendor: Actel; Published: 25-Oct-2005; Publisher: Altium Limited; HelpURL: http://www.actel.com/documents/pa3_libguide_ug.pdf
pins: A (in), B (in), C (in), Y (out)

## NOR3A
designator U?
3-Input NOR with active low A-Input; FPGAVendor: Actel; Published: 25-Oct-2005; Publisher: Altium Limited; HelpURL: http://www.actel.com/documents/pa3_libguide_ug.pdf
pins: A (in), B (in), C (in), Y (out)

## NOR3B
designator U?
3-Input NOR with active low A- and B-Inputs; FPGAVendor: Actel; Published: 25-Oct-2005; Publisher: Altium Limited; HelpURL: http://www.actel.com/documents/pa3_libguide_ug.pdf
pins: A (in), B (in), C (in), Y (out)

## NOR3C
designator U?
3-Input NOR with active low Inputs; FPGAVendor: Actel; Published: 25-Oct-2005; Publisher: Altium Limited; HelpURL: http://www.actel.com/documents/pa3_libguide_ug.pdf
pins: A (in), B (in), C (in), Y (out)

## NVM
designator U?
Flash Memory Block; FPGAVendor: Actel; Published: 7-Sep-2006; Publisher: Altium Limited; HelpURL: http://www.actel.com/documents/pa3_libguide.pdf
pins: ADDR[17..0] (in), AUXBLOCK (in), BUSY (out), CLK (in), DATAWIDTH[1..0] (in), DISCARDPAGE (in), ERASEPAGE (in), LOCKREQUEST (in), OVERWRITEPAGE (in), OVERWRITEPROTECT (in), PAGELOSSPROTECT (in), PAGESTATUS (in), PIPE (in), PROGRAM (in), RD[31..0] (out), READNEXT (in), REN (in), RESET (in), SPAREPAGE (in), STATUS[1..0] (out), UNPROTECTPAGE (in), WD[31..0] (in), WEN (in)

## OA1
designator U?
3 Input OR-AND; FPGAVendor: Actel; Published: 25-Oct-2005; Publisher: Altium Limited; HelpURL: http://www.actel.com/documents/pa3_libguide_ug.pdf
pins: A (in), B (in), C (in), Y (out)

## OA1A
designator U?
3 Input OR-AND with active low A-Input; FPGAVendor: Actel; Published: 25-Oct-2005; Publisher: Altium Limited; HelpURL: http://www.actel.com/documents/pa3_libguide_ug.pdf
pins: A (in), B (in), C (in), Y (out)

## OA1B
designator U?
3 Input OR-AND with active low C-Input; FPGAVendor: Actel; Published: 25-Oct-2005; Publisher: Altium Limited; HelpURL: http://www.actel.com/documents/pa3_libguide_ug.pdf
pins: A (in), B (in), C (in), Y (out)

## OA1C
designator U?
3 Input OR-AND with active low A- and C-Inputs; FPGAVendor: Actel; Published: 25-Oct-2005; Publisher: Altium Limited; HelpURL: http://www.actel.com/documents/pa3_libguide_ug.pdf
pins: A (in), B (in), C (in), Y (out)

## OAI1
designator U?
3-Input OR-AND-INVERT; FPGAVendor: Actel; Published: 25-Oct-2005; Publisher: Altium Limited; HelpURL: http://www.actel.com/documents/pa3_libguide_ug.pdf
pins: A (in), B (in), C (in), Y (out)

## OR2
designator U?
2-Input OR; FPGAVendor: Actel; Published: 25-Oct-2005; Publisher: Altium Limited; HelpURL: http://www.actel.com/documents/pa3_libguide_ug.pdf
pins: A (in), B (in), Y (out)

## OR2A
designator U?
2-Input OR with active low A-Input; FPGAVendor: Actel; Published: 25-Oct-2005; Publisher: Altium Limited; HelpURL: http://www.actel.com/documents/pa3_libguide_ug.pdf
pins: A (in), B (in), Y (out)

## OR2B
designator U?
2-Input OR with active low Inputs; FPGAVendor: Actel; Published: 25-Oct-2005; Publisher: Altium Limited; HelpURL: http://www.actel.com/documents/pa3_libguide_ug.pdf
pins: A (in), B (in), Y (out)

## OR3
designator U?
3-Input OR; FPGAVendor: Actel; Published: 25-Oct-2005; Publisher: Altium Limited; HelpURL: http://www.actel.com/documents/pa3_libguide_ug.pdf
pins: A (in), B (in), C (in), Y (out)

## OR3A
designator U?
3-Input OR with active low A-Input; FPGAVendor: Actel; Published: 25-Oct-2005; Publisher: Altium Limited; HelpURL: http://www.actel.com/documents/pa3_libguide_ug.pdf
pins: A (in), B (in), C (in), Y (out)

## OR3B
designator U?
3-Input OR with active low A- and B-Inputs; FPGAVendor: Actel; Published: 25-Oct-2005; Publisher: Altium Limited; HelpURL: http://www.actel.com/documents/pa3_libguide_ug.pdf
pins: A (in), B (in), C (in), Y (out)

## OR3C
designator U?
3-Input OR with active low Inputs; FPGAVendor: Actel; Published: 25-Oct-2005; Publisher: Altium Limited; HelpURL: http://www.actel.com/documents/pa3_libguide_ug.pdf
pins: A (in), B (in), C (in), Y (out)

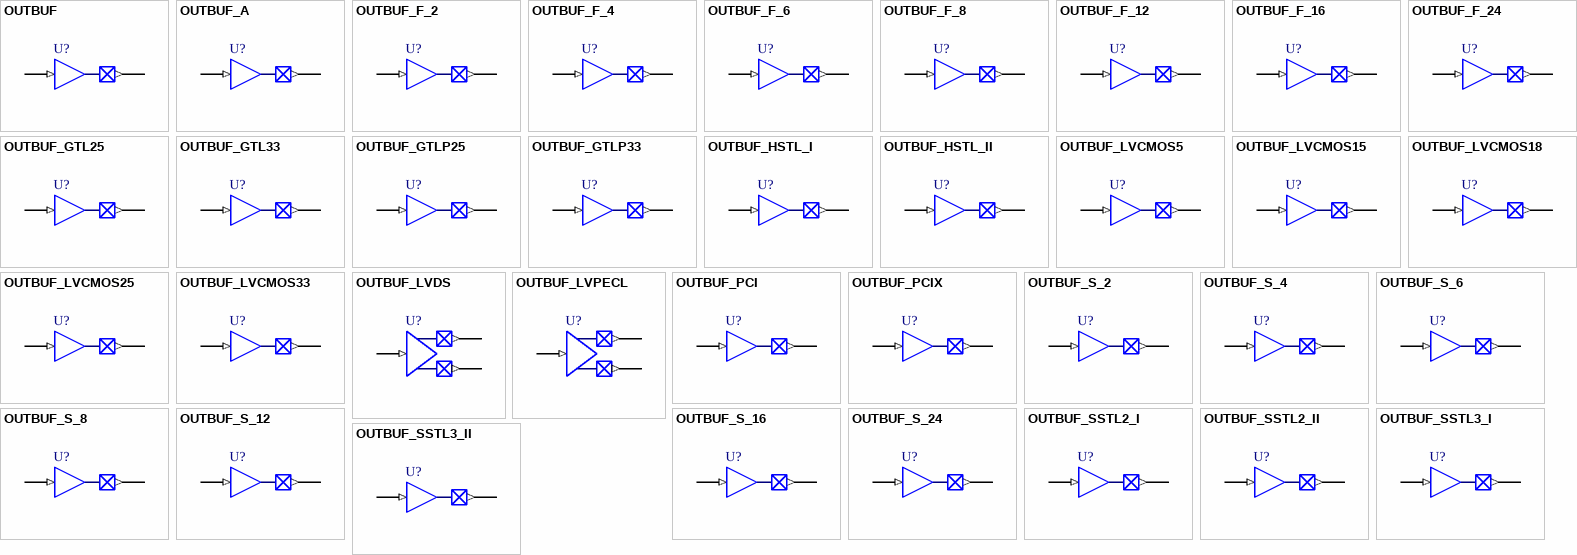
[diagram p8: symbols OUTBUF to OUTBUF_SSTL3_II]

## OUTBUF
designator U?
Output Buffer, High Slew; FPGAVendor: Actel; Published: 25-Oct-2005; Publisher: Altium Limited; HelpURL: http://www.actel.com/documents/pa3_libguide_ug.pdf
pins: D (in), PAD (out)

## OUTBUF_A
designator U?
Analog output buffer. You must use this output buffer to indicate your analog outputs. You cannot use a generic OUTBUF in place of OUTBUF_A; FPGAVendor: Actel; Published: 25-Oct-2005; Publisher: Altium Limited; HelpURL: http://www.actel.com/documents/pa3_libguide_ug.pdf
pins: D (in), PAD (out)

## OUTBUF_F_2
designator U?
Output buffer with high slew; FPGAVendor: Actel; Published: 25-Oct-2005; Publisher: Altium Limited; HelpURL: http://www.actel.com/documents/pa3_libguide_ug.pdf
pins: D (in), PAD (out)

## OUTBUF_F_4
designator U?
Output buffer with high slew; FPGAVendor: Actel; Published: 25-Oct-2005; Publisher: Altium Limited; HelpURL: http://www.actel.com/documents/pa3_libguide_ug.pdf
pins: D (in), PAD (out)

## OUTBUF_F_6
designator U?
Output buffer with high slew; FPGAVendor: Actel; Published: 25-Oct-2005; Publisher: Altium Limited; HelpURL: http://www.actel.com/documents/pa3_libguide_ug.pdf
pins: D (in), PAD (out)

## OUTBUF_F_8
designator U?
Output buffer with high slew; FPGAVendor: Actel; Published: 25-Oct-2005; Publisher: Altium Limited; HelpURL: http://www.actel.com/documents/pa3_libguide_ug.pdf
pins: D (in), PAD (out)

## OUTBUF_F_12
designator U?
Output buffer with high slew; FPGAVendor: Actel; Published: 25-Oct-2005; Publisher: Altium Limited; HelpURL: http://www.actel.com/documents/pa3_libguide_ug.pdf
pins: D (in), PAD (out)

## OUTBUF_F_16
designator U?
Output buffer with high slew; FPGAVendor: Actel; Published: 25-Oct-2005; Publisher: Altium Limited; HelpURL: http://www.actel.com/documents/pa3_libguide_ug.pdf
pins: D (in), PAD (out)

## OUTBUF_F_24
designator U?
Output buffer with high slew; FPGAVendor: Actel; Published: 25-Oct-2005; Publisher: Altium Limited; HelpURL: http://www.actel.com/documents/pa3_libguide_ug.pdf
pins: D (in), PAD (out)

## OUTBUF_GTL25
designator U?
GTL output buffer; FPGAVendor: Actel; Published: 25-Oct-2005; Publisher: Altium Limited; HelpURL: http://www.actel.com/documents/pa3_libguide.pdf
pins: D (in), PAD (out)

## OUTBUF_GTL33
designator U?
GTL output buffer; FPGAVendor: Actel; Published: 25-Oct-2005; Publisher: Altium Limited; HelpURL: http://www.actel.com/documents/pa3_libguide.pdf
pins: D (in), PAD (out)

## OUTBUF_GTLP25
designator U?
GTLP output buffer with 2.5 CMOS voltage level; FPGAVendor: Actel; Published: 25-Oct-2005; Publisher: Altium Limited; HelpURL: http://www.actel.com/documents/pa3_libguide.pdf
pins: D (in), PAD (out)

## OUTBUF_GTLP33
designator U?
GTLP output buffer with 3.3 CMOS voltage level; FPGAVendor: Actel; Published: 25-Oct-2005; Publisher: Altium Limited; HelpURL: http://www.actel.com/documents/pa3_libguide.pdf
pins: D (in), PAD (out)

## OUTBUF_HSTL_I
designator U?
HSTL class I output buffer; FPGAVendor: Actel; Published: 25-Oct-2005; Publisher: Altium Limited; HelpURL: http://www.actel.com/documents/pa3_libguide.pdf
pins: D (in), PAD (out)

## OUTBUF_HSTL_II
designator U?
HSTL class II output buffer; FPGAVendor: Actel; Published: 25-Oct-2005; Publisher: Altium Limited; HelpURL: http://www.actel.com/documents/pa3_libguide.pdf
pins: D (in), PAD (out)

## OUTBUF_LVCMOS5
designator U?
LVCMOS15 Output buffer with 5.0 CMOS Voltage Level; FPGAVendor: Actel; Published: 25-Oct-2005; Publisher: Altium Limited; HelpURL: http://www.actel.com/documents/pa3_libguide_ug.pdf
pins: D (in), PAD (out)

## OUTBUF_LVCMOS15
designator U?
LVCMOS15 Output buffer with 1.5 CMOS Voltage Level; FPGAVendor: Actel; Published: 25-Oct-2005; Publisher: Altium Limited; HelpURL: http://www.actel.com/documents/pa3_libguide_ug.pdf
pins: D (in), PAD (out)

## OUTBUF_LVCMOS18
designator U?
LVCMOS15 Output buffer with 1.8 CMOS Voltage Level; FPGAVendor: Actel; Published: 25-Oct-2005; Publisher: Altium Limited; HelpURL: http://www.actel.com/documents/pa3_libguide_ug.pdf
pins: D (in), PAD (out)

## OUTBUF_LVCMOS25
designator U?
LVCMOS15 Output buffer with 2.5 CMOS Voltage Level; FPGAVendor: Actel; Published: 25-Oct-2005; Publisher: Altium Limited; HelpURL: http://www.actel.com/documents/pa3_libguide_ug.pdf
pins: D (in), PAD (out)

## OUTBUF_LVCMOS33
designator U?
LVCMOS15 Output buffer with 3.3 CMOS Voltage Level; FPGAVendor: Actel; Published: 25-Oct-2005; Publisher: Altium Limited; HelpURL: http://www.actel.com/documents/pa3_libguide_ug.pdf
pins: D (in), PAD (out)

## OUTBUF_LVDS
designator U?
LVDS Output Buffer; FPGAVendor: Actel; Published: 25-Oct-2005; Publisher: Altium Limited; HelpURL: http://www.actel.com/documents/pa3_libguide_ug.pdf
pins: D (in), PADN (out), PADP (out)

## OUTBUF_LVPECL
designator U?
LVPECL Output Buffer; FPGAVendor: Actel; Published: 25-Oct-2005; Publisher: Altium Limited; HelpURL: http://www.actel.com/documents/pa3_libguide_ug.pdf
pins: D (in), PADN (out), PADP (out)

## OUTBUF_PCI
designator U?
PCI Output Buffer; FPGAVendor: Actel; Published: 25-Oct-2005; Publisher: Altium Limited; HelpURL: http://www.actel.com/documents/pa3_libguide_ug.pdf
pins: D (in), PAD (out)

## OUTBUF_PCIX
designator U?
PCIX Output Buffer; FPGAVendor: Actel; Published: 25-Oct-2005; Publisher: Altium Limited; HelpURL: http://www.actel.com/documents/pa3_libguide_ug.pdf
pins: D (in), PAD (out)

## OUTBUF_S_2
designator U?
Output buffer with low slew; FPGAVendor: Actel; Published: 25-Oct-2005; Publisher: Altium Limited; HelpURL: http://www.actel.com/documents/pa3_libguide_ug.pdf
pins: D (in), PAD (out)

## OUTBUF_S_4
designator U?
Output buffer with low slew; FPGAVendor: Actel; Published: 25-Oct-2005; Publisher: Altium Limited; HelpURL: http://www.actel.com/documents/pa3_libguide_ug.pdf
pins: D (in), PAD (out)

## OUTBUF_S_6
designator U?
Output buffer with low slew; FPGAVendor: Actel; Published: 25-Oct-2005; Publisher: Altium Limited; HelpURL: http://www.actel.com/documents/pa3_libguide_ug.pdf
pins: D (in), PAD (out)

## OUTBUF_S_8
designator U?
Output buffer with low slew; FPGAVendor: Actel; Published: 25-Oct-2005; Publisher: Altium Limited; HelpURL: http://www.actel.com/documents/pa3_libguide_ug.pdf
pins: D (in), PAD (out)

## OUTBUF_S_12
designator U?
Output buffer with low slew; FPGAVendor: Actel; Published: 25-Oct-2005; Publisher: Altium Limited; HelpURL: http://www.actel.com/documents/pa3_libguide_ug.pdf
pins: D (in), PAD (out)

## OUTBUF_S_16
designator U?
Output buffer with low slew; FPGAVendor: Actel; Published: 25-Oct-2005; Publisher: Altium Limited; HelpURL: http://www.actel.com/documents/pa3_libguide_ug.pdf
pins: D (in), PAD (out)

## OUTBUF_S_24
designator U?
Output buffer with low slew; FPGAVendor: Actel; Published: 25-Oct-2005; Publisher: Altium Limited; HelpURL: http://www.actel.com/documents/pa3_libguide_ug.pdf
pins: D (in), PAD (out)

## OUTBUF_SSTL2_I
designator U?
SSTL2 class I output buffer; FPGAVendor: Actel; Published: 25-Oct-2005; Publisher: Altium Limited; HelpURL: http://www.actel.com/documents/pa3_libguide.pdf
pins: D (in), PAD (out)

## OUTBUF_SSTL2_II
designator U?
SSTL2 class II output buffer; FPGAVendor: Actel; Published: 25-Oct-2005; Publisher: Altium Limited; HelpURL: http://www.actel.com/documents/pa3_libguide.pdf
pins: D (in), PAD (out)

## OUTBUF_SSTL3_I
designator U?
SSTL3 class I output buffer; FPGAVendor: Actel; Published: 25-Oct-2005; Publisher: Altium Limited; HelpURL: http://www.actel.com/documents/pa3_libguide.pdf
pins: D (in), PAD (out)

## OUTBUF_SSTL3_II
designator U?
SSTL3 class II output buffer; FPGAVendor: Actel; Published: 25-Oct-2005; Publisher: Altium Limited; HelpURL: http://www.actel.com/documents/pa3_libguide.pdf
pins: D (in), PAD (out)

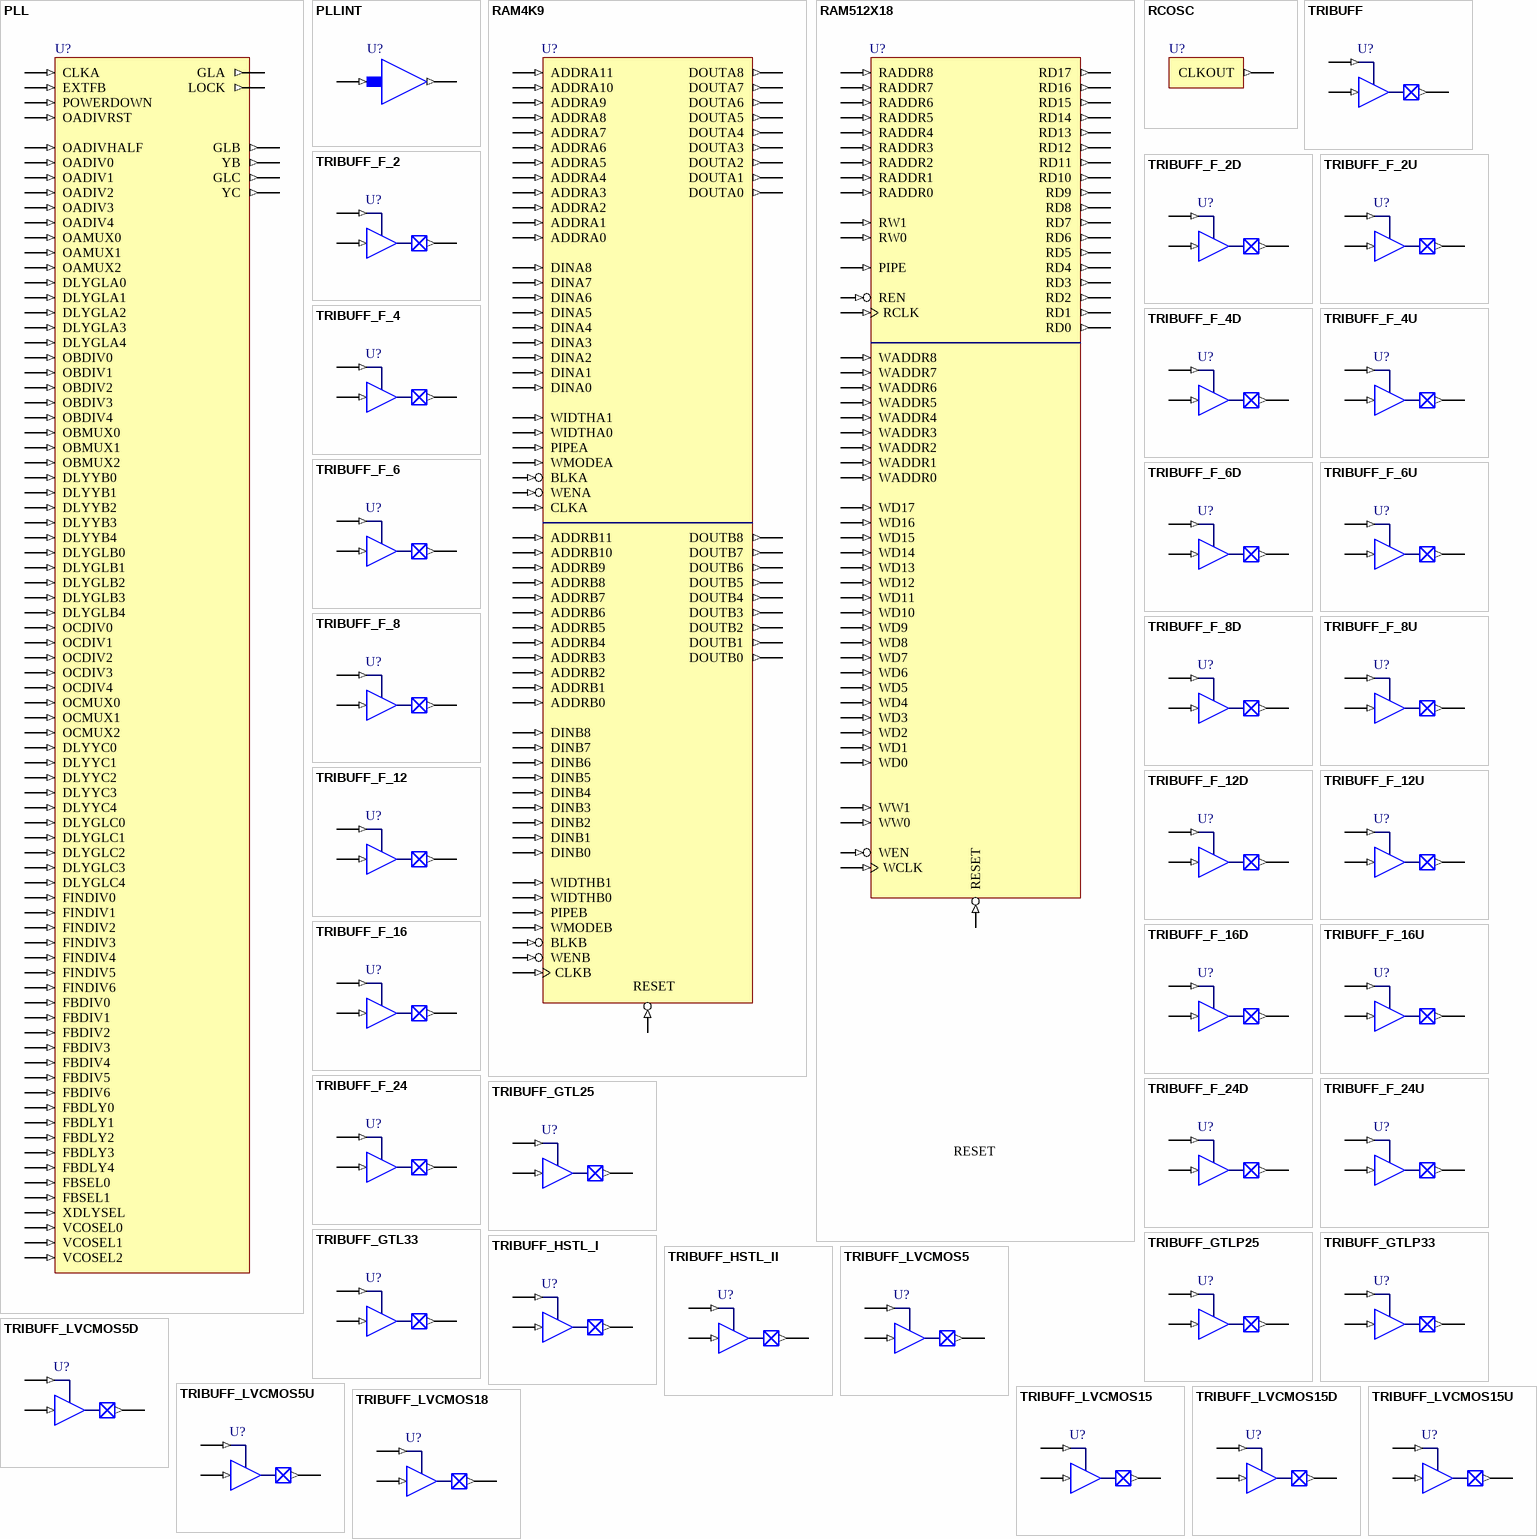
[diagram p9: symbols PLL to TRIBUFF_LVCMOS18]

## PLL
designator U?
2.5 Volt CMOS input levels, low power, normal slew; FPGAVendor: Actel; Published: 7-Sep-2006; Publisher: Altium Limited; HelpURL: http://www.actel.com/documents/pa3_libguide.pdf
pins: CLKA (in), DLYGLA0 (in), DLYGLA1 (in), DLYGLA2 (in), DLYGLA3 (in), DLYGLA4 (in), DLYGLB0 (in), DLYGLB1 (in), DLYGLB2 (in), DLYGLB3 (in), DLYGLB4 (in), DLYGLC0 (in), DLYGLC1 (in), DLYGLC2 (in), DLYGLC3 (in), DLYGLC4 (in), DLYYB0 (in), DLYYB1 (in), DLYYB2 (in), DLYYB3 (in), DLYYB4 (in), DLYYC0 (in), DLYYC1 (in), DLYYC2 (in), DLYYC3 (in), DLYYC4 (in), EXTFB (in), FBDIV0 (in), FBDIV1 (in), FBDIV2 (in), FBDIV3 (in), FBDIV4 (in), FBDIV5 (in), FBDIV6 (in), FBDLY0 (in), FBDLY1 (in), FBDLY2 (in), FBDLY3 (in), FBDLY4 (in), FBSEL0 (in), FBSEL1 (in), FINDIV0 (in), FINDIV1 (in), FINDIV2 (in), FINDIV3 (in), FINDIV4 (in), FINDIV5 (in), FINDIV6 (in), GLA (out), GLB (out), GLC (out), LOCK (out), OADIV0 (in), OADIV1 (in), OADIV2 (in), OADIV3 (in), OADIV4 (in), OADIVHALF (in), OADIVRST (in), OAMUX0 (in), OAMUX1 (in), OAMUX2 (in), OBDIV0 (in), OBDIV1 (in), OBDIV2 (in), OBDIV3 (in), OBDIV4 (in), OBMUX0 (in), OBMUX1 (in), OBMUX2 (in), OCDIV0 (in), OCDIV1 (in), OCDIV2 (in), OCDIV3 (in), OCDIV4 (in), OCMUX0 (in), OCMUX1 (in), OCMUX2 (in), POWERDOWN (in), VCOSEL0 (in), VCOSEL1 (in), VCOSEL2 (in), XDLYSEL (in), YB (out), YC (out)

## PLLINT
designator U?
PLL Int; FPGAVendor: Actel; Published: 25-Oct-2005; Publisher: Altium Limited; HelpURL: http://www.actel.com/documents/pa3_libguide_ug.pdf
pins: A (in), Y (out)

## RAM4K9
designator U?
RAM4K9 is a fully synchronous, true dual-port RAM with an optional pipeline stage; FPGAVendor: Actel; Published: 25-Oct-2005; Publisher: Altium Limited; HelpURL: http://www.actel.com/documents/pa3_libguide_ug.pdf
pins: ADDRA0 (in), ADDRA1 (in), ADDRA2 (in), ADDRA3 (in), ADDRA4 (in), ADDRA5 (in), ADDRA6 (in), ADDRA7 (in), ADDRA8 (in), ADDRA9 (in), ADDRA10 (in), ADDRA11 (in), ADDRB0 (in), ADDRB1 (in), ADDRB2 (in), ADDRB3 (in), ADDRB4 (in), ADDRB5 (in), ADDRB6 (in), ADDRB7 (in), ADDRB8 (in), ADDRB9 (in), ADDRB10 (in), ADDRB11 (in), BLKA (in), BLKB (in), CLKA (in), CLKB (in), DINA0 (in), DINA1 (in), DINA2 (in), DINA3 (in), DINA4 (in), DINA5 (in), DINA6 (in), DINA7 (in), DINA8 (in), DINB0 (in), DINB1 (in), DINB2 (in), DINB3 (in), DINB4 (in), DINB5 (in), DINB6 (in), DINB7 (in), DINB8 (in), DOUTA0 (out), DOUTA1 (out), DOUTA2 (out), DOUTA3 (out), DOUTA4 (out), DOUTA5 (out), DOUTA6 (out), DOUTA7 (out), DOUTA8 (out), DOUTB0 (out), DOUTB1 (out), DOUTB2 (out), DOUTB3 (out), DOUTB4 (out), DOUTB5 (out), DOUTB6 (out), DOUTB7 (out), DOUTB8 (out), PIPEA (in), PIPEB (in), RESET (in), WENA (in), WENB (in), WIDTHA0 (in), WIDTHA1 (in), WIDTHB0 (in), WIDTHB1 (in), WMODEA (in), WMODEB (in)

## RAM512X18
designator U?
RAM512X18 is a fully synchronous, two-port RAM with an optional pipeline stage; FPGAVendor: Actel; Published: 25-Oct-2005; Publisher: Altium Limited; HelpURL: http://www.actel.com/documents/pa3_libguide_ug.pdf
pins: PIPE (in), RADDR0 (in), RADDR1 (in), RADDR2 (in), RADDR3 (in), RADDR4 (in), RADDR5 (in), RADDR6 (in), RADDR7 (in), RADDR8 (in), RCLK (in), RD0 (out), RD1 (out), RD2 (out), RD3 (out), RD4 (out), RD5 (out), RD6 (out), RD7 (out), RD8 (out), RD9 (out), RD10 (out), RD11 (out), RD12 (out), RD13 (out), RD14 (out), RD15 (out), RD16 (out), RD17 (out), REN (in), RESET (in), RW0 (in), RW1 (in), WADDR0 (in), WADDR1 (in), WADDR2 (in), WADDR3 (in), WADDR4 (in), WADDR5 (in), WADDR6 (in), WADDR7 (in), WADDR8 (in), WCLK (in), WD0 (in), WD1 (in), WD2 (in), WD3 (in), WD4 (in), WD5 (in), WD6 (in), WD7 (in), WD8 (in), WD9 (in), WD10 (in), WD11 (in), WD12 (in), WD13 (in), WD14 (in), WD15 (in), WD16 (in), WD17 (in), WEN (in), WW0 (in), WW1 (in)

## RCOSC
designator U?
On-chip free-running clock source that generates a 100 Mhz clock; FPGAVendor: Actel; Published: 7-Sep-2006; Publisher: Altium Limited; HelpURL: http://www.actel.com/documents/pa3_libguide_ug.pdf
pins: CLKOUT (out)

## TRIBUFF
designator U?
Tristate Output, High Slew; FPGAVendor: Actel; Published: 25-Oct-2005; Publisher: Altium Limited; HelpURL: http://www.actel.com/documents/pa3_libguide_ug.pdf
pins: D (in), E (in), PAD (out)

## TRIBUFF_F_2
designator U?
Tri-state output with high slew; FPGAVendor: Actel; Published: 25-Oct-2005; Publisher: Altium Limited; HelpURL: http://www.actel.com/documents/pa3_libguide_ug.pdf
pins: D (in), E (in), PAD (out)

## TRIBUFF_F_2D
designator U?
Tri-state output with high slew; FPGAVendor: Actel; Published: 25-Oct-2005; Publisher: Altium Limited; HelpURL: http://www.actel.com/documents/pa3_libguide_ug.pdf
pins: D (in), E (in), PAD (out)

## TRIBUFF_F_2U
designator U?
Tri-state output with high slew; FPGAVendor: Actel; Published: 25-Oct-2005; Publisher: Altium Limited; HelpURL: http://www.actel.com/documents/pa3_libguide_ug.pdf
pins: D (in), E (in), PAD (out)

## TRIBUFF_F_4
designator U?
Tri-state output with high slew; FPGAVendor: Actel; Published: 25-Oct-2005; Publisher: Altium Limited; HelpURL: http://www.actel.com/documents/pa3_libguide_ug.pdf
pins: D (in), E (in), PAD (out)

## TRIBUFF_F_4D
designator U?
Tri-state output with high slew; FPGAVendor: Actel; Published: 25-Oct-2005; Publisher: Altium Limited; HelpURL: http://www.actel.com/documents/pa3_libguide_ug.pdf
pins: D (in), E (in), PAD (out)

## TRIBUFF_F_4U
designator U?
Tri-state output with high slew; FPGAVendor: Actel; Published: 25-Oct-2005; Publisher: Altium Limited; HelpURL: http://www.actel.com/documents/pa3_libguide_ug.pdf
pins: D (in), E (in), PAD (out)

## TRIBUFF_F_6
designator U?
Tri-state output with high slew; FPGAVendor: Actel; Published: 25-Oct-2005; Publisher: Altium Limited; HelpURL: http://www.actel.com/documents/pa3_libguide_ug.pdf
pins: D (in), E (in), PAD (out)

## TRIBUFF_F_6D
designator U?
Tri-state output with high slew; FPGAVendor: Actel; Published: 25-Oct-2005; Publisher: Altium Limited; HelpURL: http://www.actel.com/documents/pa3_libguide_ug.pdf
pins: D (in), E (in), PAD (out)

## TRIBUFF_F_6U
designator U?
Tri-state output with high slew; FPGAVendor: Actel; Published: 25-Oct-2005; Publisher: Altium Limited; HelpURL: http://www.actel.com/documents/pa3_libguide_ug.pdf
pins: D (in), E (in), PAD (out)

## TRIBUFF_F_8
designator U?
Tri-state output with high slew; FPGAVendor: Actel; Published: 25-Oct-2005; Publisher: Altium Limited; HelpURL: http://www.actel.com/documents/pa3_libguide_ug.pdf
pins: D (in), E (in), PAD (out)

## TRIBUFF_F_8D
designator U?
Tri-state output with high slew; FPGAVendor: Actel; Published: 25-Oct-2005; Publisher: Altium Limited; HelpURL: http://www.actel.com/documents/pa3_libguide_ug.pdf
pins: D (in), E (in), PAD (out)

## TRIBUFF_F_8U
designator U?
Tri-state output with high slew; FPGAVendor: Actel; Published: 25-Oct-2005; Publisher: Altium Limited; HelpURL: http://www.actel.com/documents/pa3_libguide_ug.pdf
pins: D (in), E (in), PAD (out)

## TRIBUFF_F_12
designator U?
Tri-state output with high slew; FPGAVendor: Actel; Published: 25-Oct-2005; Publisher: Altium Limited; HelpURL: http://www.actel.com/documents/pa3_libguide_ug.pdf
pins: D (in), E (in), PAD (out)

## TRIBUFF_F_12D
designator U?
Tri-state output with high slew; FPGAVendor: Actel; Published: 25-Oct-2005; Publisher: Altium Limited; HelpURL: http://www.actel.com/documents/pa3_libguide_ug.pdf
pins: D (in), E (in), PAD (out)

## TRIBUFF_F_12U
designator U?
Tri-state output with high slew; FPGAVendor: Actel; Published: 25-Oct-2005; Publisher: Altium Limited; HelpURL: http://www.actel.com/documents/pa3_libguide_ug.pdf
pins: D (in), E (in), PAD (out)

## TRIBUFF_F_16
designator U?
Tri-state output with high slew; FPGAVendor: Actel; Published: 25-Oct-2005; Publisher: Altium Limited; HelpURL: http://www.actel.com/documents/pa3_libguide_ug.pdf
pins: D (in), E (in), PAD (out)

## TRIBUFF_F_16D
designator U?
Tri-state output with high slew; FPGAVendor: Actel; Published: 25-Oct-2005; Publisher: Altium Limited; HelpURL: http://www.actel.com/documents/pa3_libguide_ug.pdf
pins: D (in), E (in), PAD (out)

## TRIBUFF_F_16U
designator U?
Tri-state output with high slew; FPGAVendor: Actel; Published: 25-Oct-2005; Publisher: Altium Limited; HelpURL: http://www.actel.com/documents/pa3_libguide_ug.pdf
pins: D (in), E (in), PAD (out)

## TRIBUFF_F_24
designator U?
Tri-state output with high slew; FPGAVendor: Actel; Published: 25-Oct-2005; Publisher: Altium Limited; HelpURL: http://www.actel.com/documents/pa3_libguide_ug.pdf
pins: D (in), E (in), PAD (out)

## TRIBUFF_F_24D
designator U?
Tri-state output with high slew; FPGAVendor: Actel; Published: 25-Oct-2005; Publisher: Altium Limited; HelpURL: http://www.actel.com/documents/pa3_libguide_ug.pdf
pins: D (in), E (in), PAD (out)

## TRIBUFF_F_24U
designator U?
Tri-state output with high slew; FPGAVendor: Actel; Published: 25-Oct-2005; Publisher: Altium Limited; HelpURL: http://www.actel.com/documents/pa3_libguide_ug.pdf
pins: D (in), E (in), PAD (out)

## TRIBUFF_GTL25
designator U?
GTL tri-state output buffer; FPGAVendor: Actel; Published: 25-Oct-2005; Publisher: Altium Limited; HelpURL: http://www.actel.com/documents/pa3_libguide.pdf
pins: D (in), E (in), PAD (out)

## TRIBUFF_GTL33
designator U?
GTL tri-state output buffer; FPGAVendor: Actel; Published: 25-Oct-2005; Publisher: Altium Limited; HelpURL: http://www.actel.com/documents/pa3_libguide.pdf
pins: D (in), E (in), PAD (out)

## TRIBUFF_GTLP25
designator U?
GTLP tri-state output buffer with 2.5 CMOS voltage level; FPGAVendor: Actel; Published: 25-Oct-2005; Publisher: Altium Limited; HelpURL: http://www.actel.com/documents/pa3_libguide.pdf
pins: D (in), E (in), PAD (out)

## TRIBUFF_GTLP33
designator U?
GTLP tri-state output buffer with 3.3 CMOS voltage level; FPGAVendor: Actel; Published: 25-Oct-2005; Publisher: Altium Limited; HelpURL: http://www.actel.com/documents/pa3_libguide.pdf
pins: D (in), E (in), PAD (out)

## TRIBUFF_HSTL_I
designator U?
HSTL class I tri-state output buffer; FPGAVendor: Actel; Published: 25-Oct-2005; Publisher: Altium Limited; HelpURL: http://www.actel.com/documents/pa3_libguide.pdf
pins: D (in), E (in), PAD (out)

## TRIBUFF_HSTL_II
designator U?
HSTL class II tri-state output buffer; FPGAVendor: Actel; Published: 25-Oct-2005; Publisher: Altium Limited; HelpURL: http://www.actel.com/documents/pa3_libguide.pdf
pins: D (in), E (in), PAD (out)

## TRIBUFF_LVCMOS5
designator U?
LVCMOS5 Tri-State Output with 5.0 Voltage Level; FPGAVendor: Actel; Published: 25-Oct-2005; Publisher: Altium Limited; HelpURL: http://www.actel.com/documents/pa3_libguide_ug.pdf
pins: D (in), E (in), PAD (out)

## TRIBUFF_LVCMOS5D
designator U?
LVCMOS5 Tri-State Output with 5.0 Voltage Level, Pull-Down Resistor; FPGAVendor: Actel; Published: 25-Oct-2005; Publisher: Altium Limited; HelpURL: http://www.actel.com/documents/pa3_libguide_ug.pdf
pins: D (in), E (in), PAD (out)

## TRIBUFF_LVCMOS5U
designator U?
LVCMOS5 Tri-State Output with 1.8 Voltage Level, Pull-Up Resistor; FPGAVendor: Actel; Published: 25-Oct-2005; Publisher: Altium Limited; HelpURL: http://www.actel.com/documents/pa3_libguide_ug.pdf
pins: D (in), E (in), PAD (out)